# Altium footprint library RayPCB20210502.PcbLib: 211 footprints (part 9 of 14)
Each footprint in its own frame and in the unit in brackets; x right, y up, seen from the top. Pads: shape width x height; smd on the part's side, far side on the other; paste and mask are expansions set on the pad; w line width, h text height; cw(c..) or ccw(c..) is an arc to the next point about the centre after c.
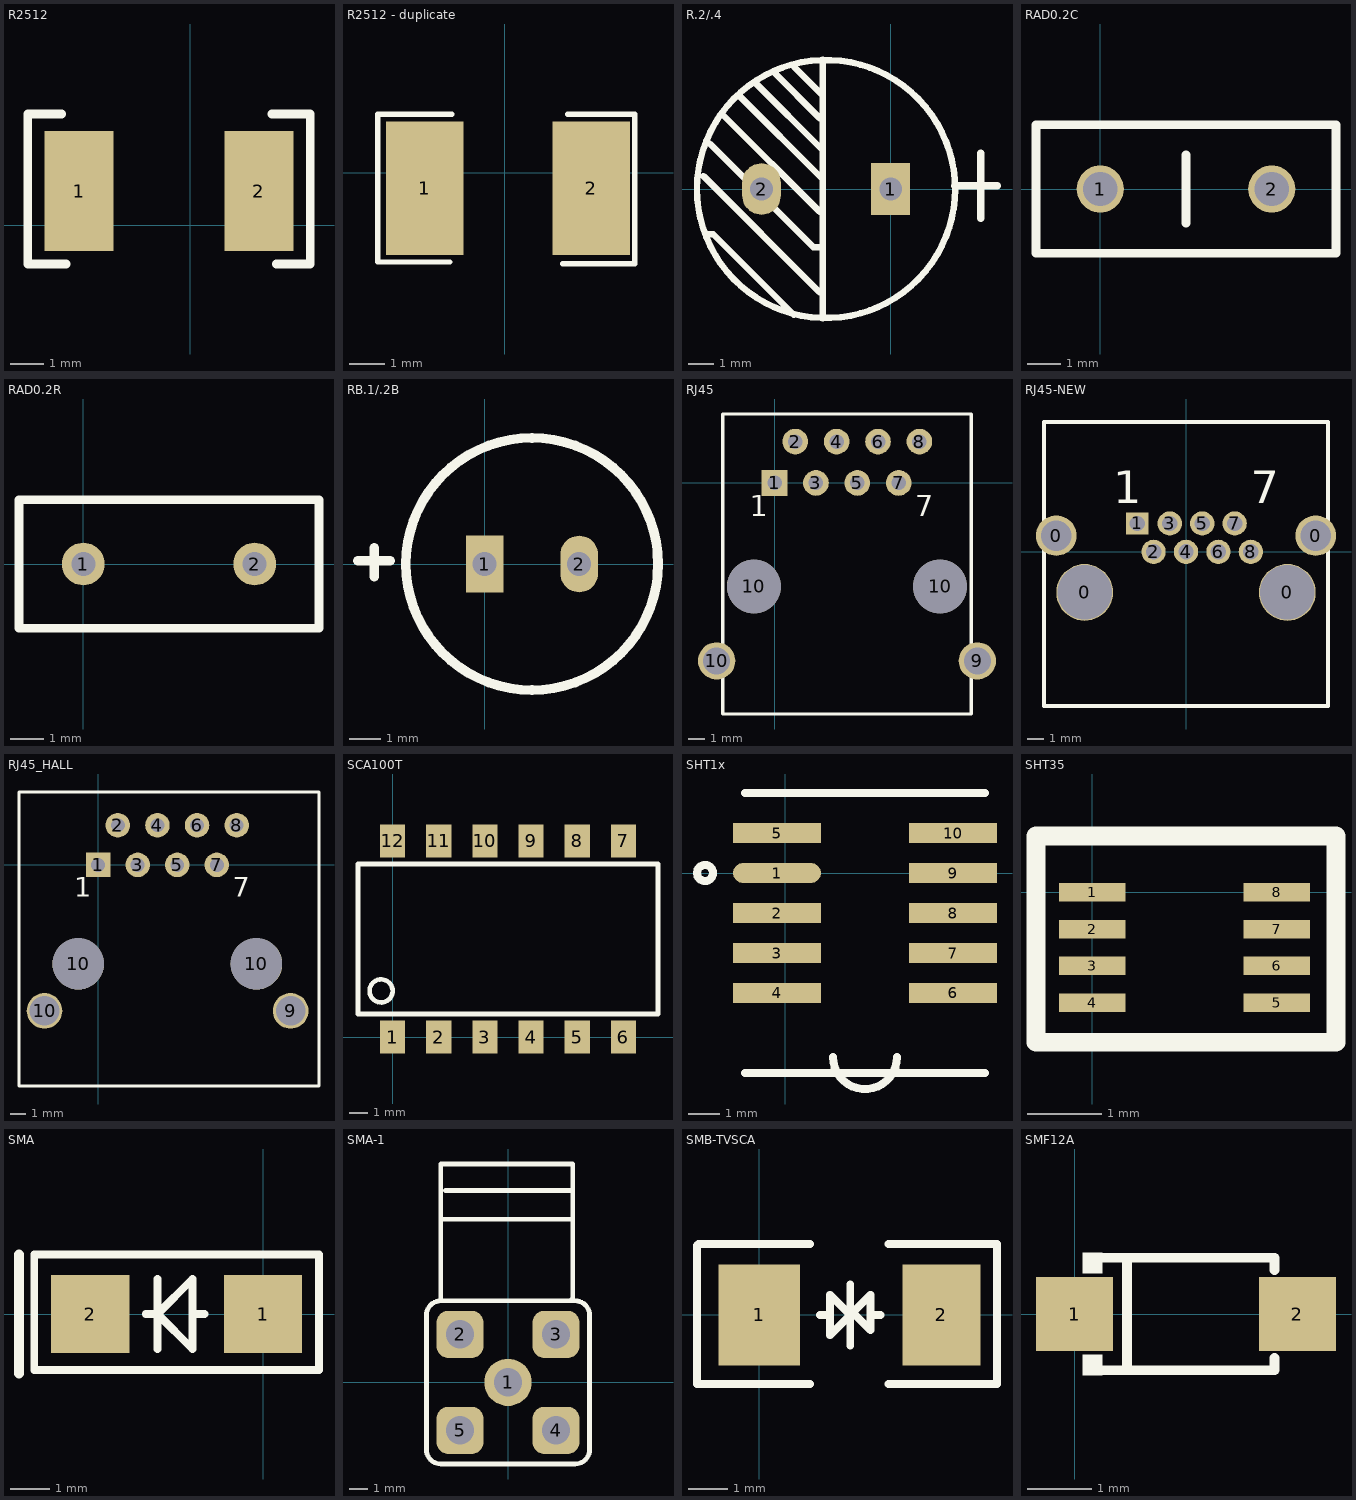
[diagram p8: the footprints below, top view; thin cyan lines are the x and y axes]

## R2512 [mil]
pads (2):
  rect 80x140 smd: 1(-130,40) 2(80,40)
Top Overlay:
  lines w10: -150,130 -190,130 -190,45 -190,-45 -145,-45 ; 95,130 140,130 140,40 140,-45 100,-45

## R2512 - duplicate [mm]
pads (2):
  rect 2.2x3.8 smd: 1(-2.269,-0.442) 2(2.457,-0.442)
Top Overlay:
  lines w0.152: -1.556,-2.542 -3.607,-2.543 -3.607,1.659 -1.506,1.658 ; 1.643,-2.591 3.693,-2.591 3.693,1.659 1.793,1.659
Mechanical 15:
  lines w0.003: 1.694,-0.339 1.694,-0.339

## R.2/.4 [mil]
pads (2):
  rect 60x80 hole 35: 1(0,0)
  oval 60x80 hole 35: 2(-200,0)
Top Overlay:
  circle w10: c-100,0 r200
  lines w10: -290,20 -110,-160 -105,-160 ; -285,-70 -275,-70 -150,-195 ; -280,70 -120,-90 -105,-90 ; -260,115 -110,-35 -105,-35 ; -235,145 -105,15 ; -210,165 -105,60 ; -180,180 -110,110 -105,110 ; -150,190 -105,145 -105,130 ; -105,-200 -105,200
  lines w12: 100,5 165,5 ; 140,-45 140,55

## RAD0.2C [mil]
pads (2):
  round 55 hole 40: 1(0,0) 2(200,0)
Top Overlay:
  lines w10: 100,-40 100,40 ; -75,-75 -75,75 275,75 275,-75 -75,-75

## RAD0.2R [mil]
pads (2):
  round 50 hole 28: 1(0,0) 2(200,0)
Top Overlay:
  lines w10: -75,-75 0,-75 200,-75 275,-75 275,75 200,75 0,75 -75,75 -75,-75

## RB.1/.2B [mm]
pads (2):
  rect 1.2x1.8 hole 0.76: 1(0,0)
  oval 1.2x1.8 hole 0.76: 2(3,0)
Top Overlay:
  circle w0.305: c1.5,0 r4
  lines w0.305: -4.02,0.1 -3.004,0.1 ; -3.5,-0.4 -3.5,0.508

## RJ45 [mil]
pads (12):
  rect 62x62 hole 35: 1(0,0)
  round 62 hole 35: 2(50,100) 3(100,0) 4(150,100) 5(200,0) 6(250,100) 7(300,0) 8(350,100)
  round 90 hole 65: 9(490,-430) 10(-139.92,-430)
  round 129.92 hole 129.92: 10(-50,-250) 10(400,-250)
Top Overlay:
  lines w8: -125,-558.33 -125,166.67 475,166.67 475,-558.33 -125,-558.33
  text "1" at -60,-80 h50
  text "7" at 340,-80 h50

## RJ45-NEW [mil]
pads (12):
  round 100 hole 75: 0(-320,40) 0(320,40)
  round 140 hole 135: 0(-250,-100) 0(250,-100)
  rect 55x55 hole 38: 1(-120,70)
  round 60 hole 38: 2(-80,0) 3(-40,70) 4(0,0) 5(40,70) 6(80,0) 7(120,70) 8(160,0)
Top Overlay:
  lines w10: -350,-380 350,-380 350,320 -350,320 -350,-380
  text "1" at -180,120 h80
  text "7" at 160,120 h80

## RJ45_HALL [mil]
pads (12):
  rect 62x62 hole 35: 1(0,0)
  round 62 hole 35: 2(50,100) 3(100,0) 4(150,100) 5(200,0) 6(250,100) 7(300,0) 8(350,100)
  round 90 hole 75: 9(486.22,-368.5) 10(-135.19,-368.5)
  round 129.92 hole 129.92: 10(-50,-250) 10(400,-250)
Top Overlay:
  lines w8: -199.61,-558.33 -199.61,184.25 557.87,184.25 557.87,-558.33 -199.61,-558.33
  text "1" at -60,-80 h50
  text "7" at 340,-80 h50

## SCA100T [mm]
pads (12):
  rect 1.39x1.81 smd: 1(0,0) 2(2.54,0) 3(5.08,0) 4(7.62,0) 5(10.16,0) 6(12.7,0) 7(12.7,10.795) 8(10.16,10.795) 9(7.62,10.795) 10(5.08,10.795) 11(2.54,10.795) 12(0,10.795)
Top Overlay:
  circle w0.254: c-0.635,2.54 r0.635
  lines w0.254: -1.905,1.27 -1.905,9.525 14.605,9.525 14.605,1.27 -1.905,1.27

## SHT1x [mil] "WetTempSensor SHT1x Series"
pads (10):
  oval 110x25 smd: 1(-10,0)
  rect 110x25 smd: 2(-10,-50) 3(-10,-100) 4(-10,-150) 5(-10,50) 6(210,-150) 7(210,-100) 8(210,-50) 9(210,0) 10(210,50)
Top Overlay:
  circle w10: c-100,0 r10
  lines w10: -50,-250 250,-250 ; -50,100 250,100 ; 60,-230 ccw(c100,-230) 140,-230

## SHT35 [mm]
pads (8):
  rect 0.9x0.25 smd: 1(0,0) 2(0,-0.5) 3(0,-1) 4(0,-1.5) 5(2.5,-1.5) 6(2.5,-1) 7(2.5,-0.5) 8(2.5,0)
Top Overlay:
  lines w0.254: -0.762,-2.032 -0.762,0.762 3.302,0.762 3.302,-2.032 -0.762,-2.032

## SMA [mm] "RS1M"
pads (2):
  rect 2x2 smd: 1(0,0) 2(-4.42,0)
Top Overlay:
  lines w0.203: -3,0 -2.7,0 ; -2.7,-0.9 -2.7,0.9 ; -1.8,0 -1.5,0 ; -2.7,0 -1.8,-0.9 -1.8,0.9 -2.7,0 ; -5.85,-1.43 -5.85,1.524 1.43,1.524 1.43,-1.43 -5.85,-1.43
  lines w0.254: -6.24,-1.524 -6.24,1.524

## SMA-1 [mm]
pads (5):
  round 2.5 hole 1.5: 1(0,0)
  rrect50% 2.5x2.5 hole 1.5: 2(-2.54,2.54) 3(2.54,2.54) 4(2.54,-2.54) 5(-2.54,-2.54)
Top Overlay:
  lines w0.254: -3.429,8.636 3.429,8.636 ; -3.302,10.16 3.429,10.16 ; 3.302,4.318 3.429,4.445 3.429,11.557 -3.556,11.557 -3.556,4.318 ; -3.556,4.318 ccw(c-3.556,3.556) -4.318,3.556 -4.318,-3.556 ccw(c-3.556,-3.556) -3.556,-4.318 3.556,-4.318 ccw(c3.556,-3.556) 4.318,-3.556 4.318,3.556 ccw(c3.556,3.556) 3.556,4.318 -3.556,4.318

## SMB-TVSCA [mm]
pads (2):
  rect 2.1x2.6 smd: 1(0,0)
  rect 2x2.6 smd: 2(4.68,0)
Top Overlay:
  lines w0.2: 1.304,-1.775 -1.596,-1.775 -1.596,1.784 -1.555,1.825 1.304,1.825 ; 3.323,-1.775 6.11,-1.775 6.11,1.825 3.323,1.825
  lines w0.203: 1.56,0 1.82,0 ; 2.34,-0.78 2.34,0.78 ; 2.86,0 3.12,0 ; 2.34,0 2.47,0 2.86,-0.39 2.86,0.52 2.34,0 ; 2.34,0 2.34,0 ; 2.34,0 1.82,-0.52 1.82,0.52 2.34,0

## SMF12A [mm] "SOD-123"
pads (2):
  rect 1.2x1.15 smd: 1(0,0) 2(3.47,0)
Top Overlay:
  region: 0.435,-0.952 0.435,-0.632 0.13,-0.632 0.13,-0.952
  region: 0.435,0.952 0.435,0.632 0.13,0.632 0.13,0.952
  lines w0.152: 0.359,-0.876 3.111,-0.876 3.111,-0.683 ; 0.359,0.876 3.111,0.876 3.111,0.683 ; 0.818,-0.876 0.818,0.876
Mechanical 15:
  region: 3.482,-0.384 3.29,-0.384 3.29,0.384 3.482,0.384
  region: 3.77,0.096 3.77,-0.096 3.002,-0.096 3.002,0.096
  region: -0.297,0.127 -0.297,-0.065 0.471,-0.065 0.471,0.127